# EAGLE library part 74FCT373ASO (library A3660)
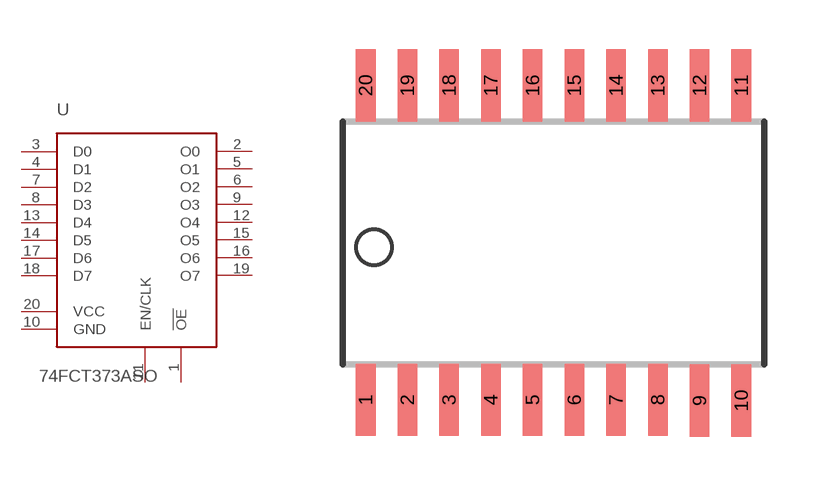
[diagram p7: symbol with the pads of 74FCT373ASO; footprint 74FCT373ASO]

Designator prefix -

## 74FCT373ASO  [74FCT373ASO]
1  !OE
2  O0
3  D0
4  D1
5  O1
6  O2
7  D2
8  D3
9  O3
10  GND
11  EN/CLK
12  O4
13  D4
14  D5
15  O5
16  O6
17  D6
18  D7
19  O7
20  VCC

## Footprint 74FCT373ASO (pad centres in mm)
smd 0.6 x 2.2: 1 -4.445,-4.775; 2 -3.175,-4.775; 3 -1.905,-4.775; 4 -0.635,-4.775; 5 0.635,-4.775; 6 1.905,-4.775; 7 3.175,-4.775; 8 4.445,-4.775; 9 5.715,-4.8; 10 6.985,-4.8; 11 6.985,4.8; 12 5.715,4.8; 13 4.445,4.8; 14 3.175,4.8; 15 1.905,4.8; 16 0.635,4.8; 17 -0.635,4.8; 18 -1.905,4.8; 19 -3.175,4.8; 20 -4.445,4.8